# EAGLE library part H-BRIDGE-MOSFET-01 (library LITTLEBITS140915)
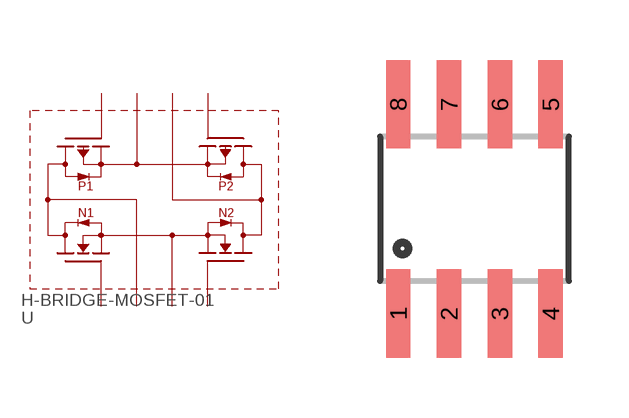
[diagram p68: symbol with the pads of SOIC8; footprint SOIC8]

Designator prefix -

## H-BRIDGE-MOSFET-01  [SOIC8]
1  1  pas
2  2  pas
3  3  pas
4  4  pas
5  5  pas
6  6  pas
7  7  pas
8  8  pas

## Footprint SOIC8 (pad centres in mm)
smd 0.61 x 2.21: 1 -1.905,-2.616; 2 -0.635,-2.616; 3 0.635,-2.616; 4 1.905,-2.616; 5 1.905,2.616; 6 0.635,2.616; 7 -0.635,2.616; 8 -1.905,2.616